# EAGLE library part XC2C256_CP (library MAX9812)
Xilinx XC2C256 CoolRunner-II CPLD Description: The CoolRunner-II 256-macrocell device is designed for both high performance and low power applications. This lends power savings to high-end communication equipment and high speed to battery operated devices. Due to the low power stand-by and dynamic operation, overall system reliability is improved This device consists of sixteen Function Blocks inter-connected by a low power Advanced Interconnect Matrix (AIM). The AIM feeds 40 true and complement inputs to each Function Block. The Function Blocks consist of a 40 by 56 P-term PLA and 16 macrocells which contain numerous configuration bits that allow for combinational or registered modes of operation. Additionally, these registers can be globally reset or preset and configured as a D or T flip-flop or as a D latch. There are also multiple clock signals, both global and local product term types, configured on a per macrocell basis. Output pin configurations include slew rate limit, bus hold, pull-up, open drain and programmable grounds. A Schmitt-trigger input is available on a per input pin basis. In addition to storing macrocell output states, the macrocell registers may be configured as "direct input" registers to store signals directly from input pins. Clocking is available on a global or Function Block basis. Three global clocks are available for all Function Blocks as a synchronous clock source. Macrocell registers can be individually configured to power up to the zero or one state. A global set/reset control line is also available to asynchronously set or reset selected registers during operation. Additional local clock, synchronous clock-enable, asynchronous set/reset and output enable signals can be formed using product terms on a per-macrocell or per-Function Block basis. A DualEDGE flip-flop feature is also available on a per macrocell basis. This feature allows high performance synchronous operation based on lower frequency clocking to help reduce the total power consumption of the device. Circuitry has also been included to divide one externally supplied global clock (GCK2) by eight different selections. This yields divide by even and odd clock frequencies. The use of the clock divide (division by 2) and DualEDGE flip-flop gives the resultant CoolCLOCK feature. DataGATE is a method to selectively disable inputs of the CPLD that are not of interest during certain points in time. Features: Optimized for 1.8V systems - As fast as 5.7 ns pin-to-pin delays - As low as 13 uA quiescent current Industry's best 0.18 micron CMOS CPLD - Optimized architecture for effective logic synthesis. Refer to the CoolRunner-II family data sheet for architecture description. - Multi-voltage I/O operation -- 1.5V to 3.3V Available in multiple package options - 100-pin VQFP with 80 user I/O - 144-pin TQFP with 118 user I/O - 132-ball CP (0.5mm) BGA with 106 user I/O - 208-pin PQFP with 173 user I/O - 256-ball FT (1.0mm) BGA with 184 user I/O - Pb-free available for all packages Advanced system features - Fastest in system programming · 1.8V ISP using IEEE 1532 (JTAG) interface - IEEE1149.1 JTAG Boundary Scan Test - Optional Schmitt-trigger input (per pin) - Unsurpassed low power management · DataGATE enable (DGE) signal control - Two separate I/O banks - RealDigital 100% CMOS product term generation - Flexible clocking modes · Optional DualEDGE triggered registers · Clock divider (divide by 2,4,6,8,10,12,14,16) · CoolCLOCK - Global signal options with macrocell control · Multiple global clocks with phase selection per macrocell · Multiple global output enables · Global set/reset - Advanced design security - PLA architecture · Superior pinout retention · 100% product term routability across function block - Open-drain output option for Wired-OR and LED drive - Optional bus-hold, 3-state or weak pull-up on selected I/O pins - Optional configurable grounds on unused I/Os - Mixed I/O voltages compatible with 1.5V, 1.8V, 2.5V, and 3.3V logic levels · SSTL2-1, SSTL3-1, and HSTL-1 I/O compatibility - Hot pluggable Please send any comments to: messi@users.sourceforge.net
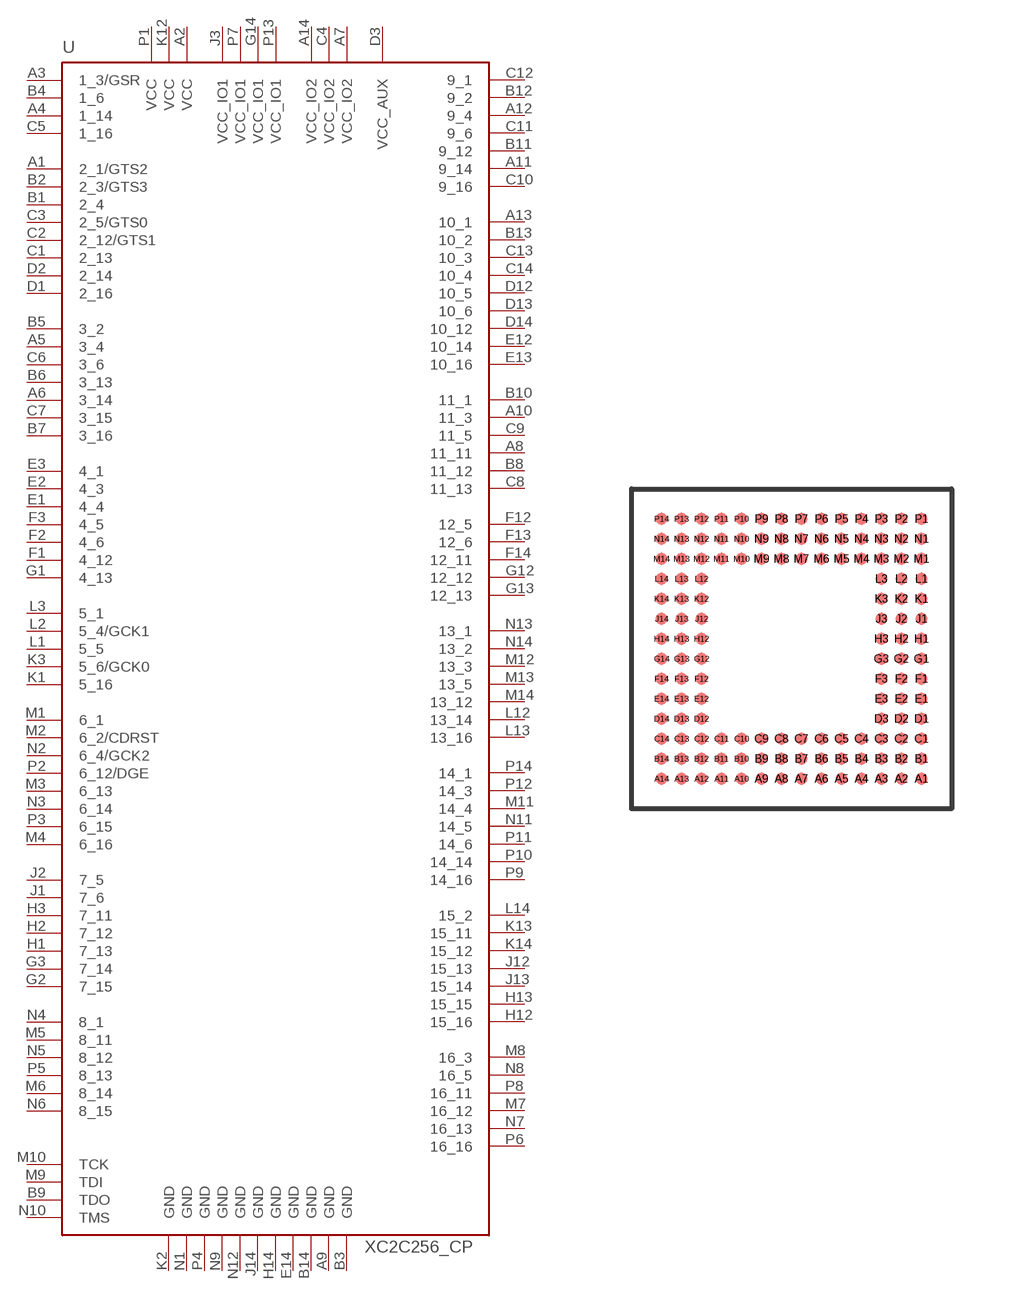
[diagram p137: symbol with the pads of CP132; footprint CP132]

Designator prefix U

## XC2C256_CP  [CP132]
A1  2_1/GTS2
A2  VCC  pwr
A3  1_3/GSR
A4  1_14
A5  3_4
A6  3_14
A7  VCC_IO2  pwr
A8  11_11
A9  GND  pwr
A10  11_3
A11  9_14
A12  9_4
A13  10_1
A14  VCC_IO2  pwr
B1  2_4
B2  2_3/GTS3
B3  GND  pwr
B4  1_6
B5  3_2
B6  3_13
B7  3_16
B8  11_12
B9  TDO
B10  11_1
B11  9_12
B12  9_2
B13  10_2
B14  GND  pwr
C1  2_13
C2  2_12/GTS1
C3  2_5/GTS0
C4  VCC_IO2  pwr
C5  1_16
C6  3_6
C7  3_15
C8  11_13
C9  11_5
C10  9_16
C11  9_6
C12  9_1
C13  10_3
C14  10_4
D1  2_16
D2  2_14
D3  VCC_AUX  pwr
D12  10_5
D13  10_6
D14  10_12
E1  4_4
E2  4_3
E3  4_1
E12  10_14
E13  10_16
E14  GND  pwr
F1  4_12
F2  4_6
F3  4_5
F12  12_5
F13  12_6
F14  12_11
G1  4_13
G2  7_15
G3  7_14
G12  12_12
G13  12_13
G14  VCC_IO1  pwr
H1  7_13
H2  7_12
H3  7_11
H12  15_16
H13  15_15
H14  GND  pwr
J1  7_6
J2  7_5
J3  VCC_IO1  pwr
J12  15_13
J13  15_14
J14  GND  pwr
K1  5_16
K2  GND  pwr
K3  5_6/GCK0
K12  VCC  pwr
K13  15_11
K14  15_12
L1  5_5
L2  5_4/GCK1
L3  5_1
L12  13_14
L13  13_16
L14  15_2
M1  6_1
M2  6_2/CDRST
M3  6_13
M4  6_16
M5  8_11
M6  8_14
M7  16_12
M8  16_3
M9  TDI
M10  TCK
M11  14_4
M12  13_3
M13  13_5
M14  13_12
N1  GND  pwr
N2  6_4/GCK2
N3  6_14
N4  8_1
N5  8_12
N6  8_15
N7  16_13
N8  16_5
N9  GND  pwr
N10  TMS
N11  14_5
N12  GND  pwr
N13  13_1
N14  13_2
P1  VCC  pwr
P2  6_12/DGE
P3  6_15
P4  GND  pwr
P5  8_13
P6  16_16
P7  VCC_IO1  pwr
P8  16_11
P9  14_16
P10  14_14
P11  14_6
P12  14_3
P13  VCC_IO1  pwr
P14  14_1

## Footprint CP132 (pad centres in mm)
XILINX Chip Scale BGA (CP132/CPG132) Package
smd 0.3 x 0.3: A1 3.25,-3.25; A2 2.75,-3.25; A3 2.25,-3.25; A4 1.75,-3.25; A5 1.25,-3.25; A6 0.75,-3.25; A7 0.25,-3.25; A8 -0.25,-3.25; A9 -0.75,-3.25; A10 -1.25,-3.25; A11 -1.75,-3.25; A12 -2.25,-3.25; A13 -2.75,-3.25; A14 -3.25,-3.25; B1 3.25,-2.75; B2 2.75,-2.75; B3 2.25,-2.75; B4 1.75,-2.75; B5 1.25,-2.75; B6 0.75,-2.75; B7 0.25,-2.75; B8 -0.25,-2.75; B9 -0.75,-2.75; B10 -1.25,-2.75; B11 -1.75,-2.75; B12 -2.25,-2.75; B13 -2.75,-2.75; B14 -3.25,-2.75; C1 3.25,-2.25; C2 2.75,-2.25; C3 2.25,-2.25; C4 1.75,-2.25; C5 1.25,-2.25; C6 0.75,-2.25; C7 0.25,-2.25; C8 -0.25,-2.25; C9 -0.75,-2.25; C10 -1.25,-2.25; C11 -1.75,-2.25; C12 -2.25,-2.25; C13 -2.75,-2.25; C14 -3.25,-2.25; D1 3.25,-1.75; D2 2.75,-1.75; D3 2.25,-1.75; D12 -2.25,-1.75; D13 -2.75,-1.75; D14 -3.25,-1.75; E1 3.25,-1.25; E2 2.75,-1.25; E3 2.25,-1.25; E12 -2.25,-1.25; E13 -2.75,-1.25; E14 -3.25,-1.25; F1 3.25,-0.75; F2 2.75,-0.75; F3 2.25,-0.75; F12 -2.25,-0.75; F13 -2.75,-0.75; F14 -3.25,-0.75; G1 3.25,-0.25; G2 2.75,-0.25; G3 2.25,-0.25; G12 -2.25,-0.25; G13 -2.75,-0.25; G14 -3.25,-0.25; H1 3.25,0.25; H2 2.75,0.25; H3 2.25,0.25; H12 -2.25,0.25; H13 -2.75,0.25; H14 -3.25,0.25; J1 3.25,0.75; J2 2.75,0.75; J3 2.25,0.75; J12 -2.25,0.75; J13 -2.75,0.75; J14 -3.25,0.75; K1 3.25,1.25; K2 2.75,1.25; K3 2.25,1.25; K12 -2.25,1.25; K13 -2.75,1.25; K14 -3.25,1.25; L1 3.25,1.75; L2 2.75,1.75; L3 2.25,1.75; L12 -2.25,1.75; L13 -2.75,1.75; L14 -3.25,1.75; M1 3.25,2.25; M2 2.75,2.25; M3 2.25,2.25; M4 1.75,2.25; M5 1.25,2.25; M6 0.75,2.25; M7 0.25,2.25; M8 -0.25,2.25; M9 -0.75,2.25; M10 -1.25,2.25; M11 -1.75,2.25; M12 -2.25,2.25; M13 -2.75,2.25; M14 -3.25,2.25; N1 3.25,2.75; N2 2.75,2.75; N3 2.25,2.75; N4 1.75,2.75; N5 1.25,2.75; N6 0.75,2.75; N7 0.25,2.75; N8 -0.25,2.75; N9 -0.75,2.75; N10 -1.25,2.75; N11 -1.75,2.75; N12 -2.25,2.75; N13 -2.75,2.75; N14 -3.25,2.75; P1 3.25,3.25; P2 2.75,3.25; P3 2.25,3.25; P4 1.75,3.25; P5 1.25,3.25; P6 0.75,3.25; P7 0.25,3.25; P8 -0.25,3.25; P9 -0.75,3.25; P10 -1.25,3.25; P11 -1.75,3.25; P12 -2.25,3.25; P13 -2.75,3.25; P14 -3.25,3.25